# EAGLE library part W65C02 (library Custom)
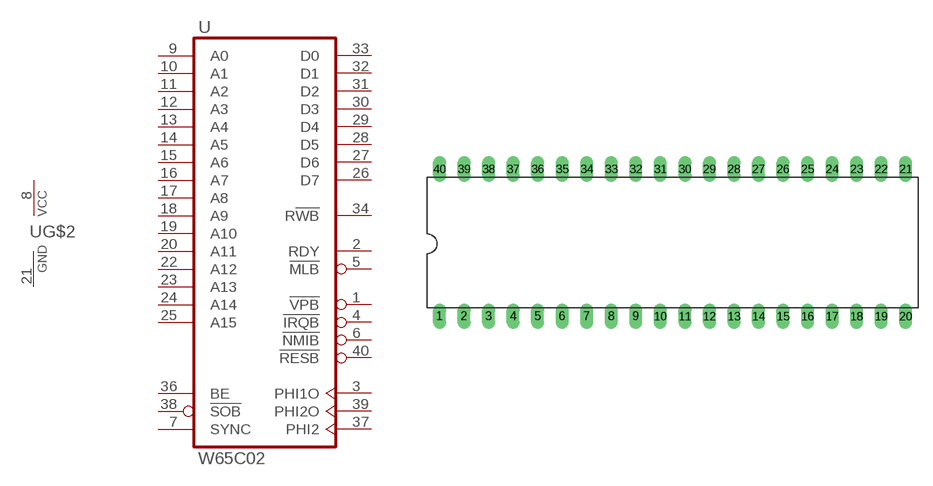
[diagram p15: symbol with the pads of DIL40; footprint DIL40]

Designator prefix U; gates G$1=65C02 G$2=PWRN

## W65C02P  [DIL40]
1  G$1:!VPB  out
2  G$1:RDY
3  G$1:PHI1O  out
4  G$1:!IRQB  in
5  G$1:!MLB  out
6  G$1:!NMIB  in
7  G$1:SYNC  out
8  G$2:VCC  pwr
9  G$1:A0  out
10  G$1:A1  out
11  G$1:A2  out
12  G$1:A3  out
13  G$1:A4  out
14  G$1:A5  out
15  G$1:A6  out
16  G$1:A7  out
17  G$1:A8  out
18  G$1:A9  out
19  G$1:A10  out
20  G$1:A11  out
21  G$2:GND  pwr
22  G$1:A12  out
23  G$1:A13  out
24  G$1:A14  out
25  G$1:A15  out
26  G$1:D7
27  G$1:D6
28  G$1:D5
29  G$1:D4
30  G$1:D3
31  G$1:D2
32  G$1:D1
33  G$1:D0
34  G$1:R!WB  out
36  G$1:BE  in
37  G$1:PHI2  in
38  G$1:!SOB  in
39  G$1:PHI2O  out
40  G$1:!RESB  in

## Footprint DIL40 (pad centres in mm)
drill 0.813 long: 1 -24.13,-7.62; 2 -21.59,-7.62; 3 -19.05,-7.62; 4 -16.51,-7.62; 5 -13.97,-7.62; 6 -11.43,-7.62; 7 -8.89,-7.62; 8 -6.35,-7.62; 9 -3.81,-7.62; 10 -1.27,-7.62; 11 1.27,-7.62; 12 3.81,-7.62; 13 6.35,-7.62; 14 8.89,-7.62; 15 11.43,-7.62; 16 13.97,-7.62; 17 16.51,-7.62; 18 19.05,-7.62; 19 21.59,-7.62; 20 24.13,-7.62; 21 24.13,7.62; 22 21.59,7.62; 23 19.05,7.62; 24 16.51,7.62; 25 13.97,7.62; 26 11.43,7.62; 27 8.89,7.62; 28 6.35,7.62; 29 3.81,7.62; 30 1.27,7.62; 31 -1.27,7.62; 32 -3.81,7.62; 33 -6.35,7.62; 34 -8.89,7.62; 35 -11.43,7.62; 36 -13.97,7.62; 37 -16.51,7.62; 38 -19.05,7.62; 39 -21.59,7.62; 40 -24.13,7.62